# EAGLE library part OPA2374 (library perspection)
IC OPAMP GP 6.5MHZ RRO SOT23-8 Digi-key Page <http://www.digikey.com/product-detail/en/OPA2374AIDCNR/296-37645-1-ND/4833881>
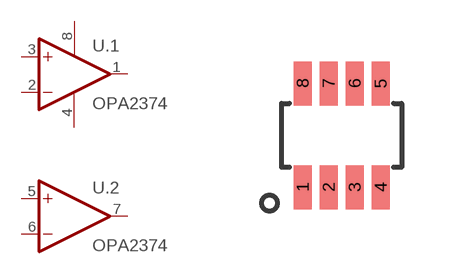
[diagram p9: symbol with the pads of TI-SOT23-8; footprint TI-SOT23-8]

Designator prefix U; gates .1=OPAMP+- .2=OPAMP

## OPA2374AIDCNR (DIST_NAME: Digi-Key; DIST_PN: 296-37645-1-ND; MFG_NAME: Texas Instruments; MFG_PN: OPA2374AIDCNR)  [TI-SOT23-8]
1  .1:OUT  out
2  .1:-IN  in
3  .1:+IN  in
4  .1:V-
5  .2:+IN  in
6  .2:-IN  in
7  .2:OUT  out
8  .1:V+

## Footprint TI-SOT23-8 (pad centres in mm)
smd 0.45 x 1.1: 1 -0.975,-1.3; 2 -0.325,-1.3; 3 0.325,-1.3; 4 0.975,-1.3; 5 0.975,1.3; 6 0.325,1.3; 7 -0.325,1.3; 8 -0.975,1.3